# Altium schematic symbol library 0.1 - 电阻-电容-电感-磁珠-电位器.SchLib: 44 symbols
Pins are listed as number, name and electrical type; pins without a type are passive.

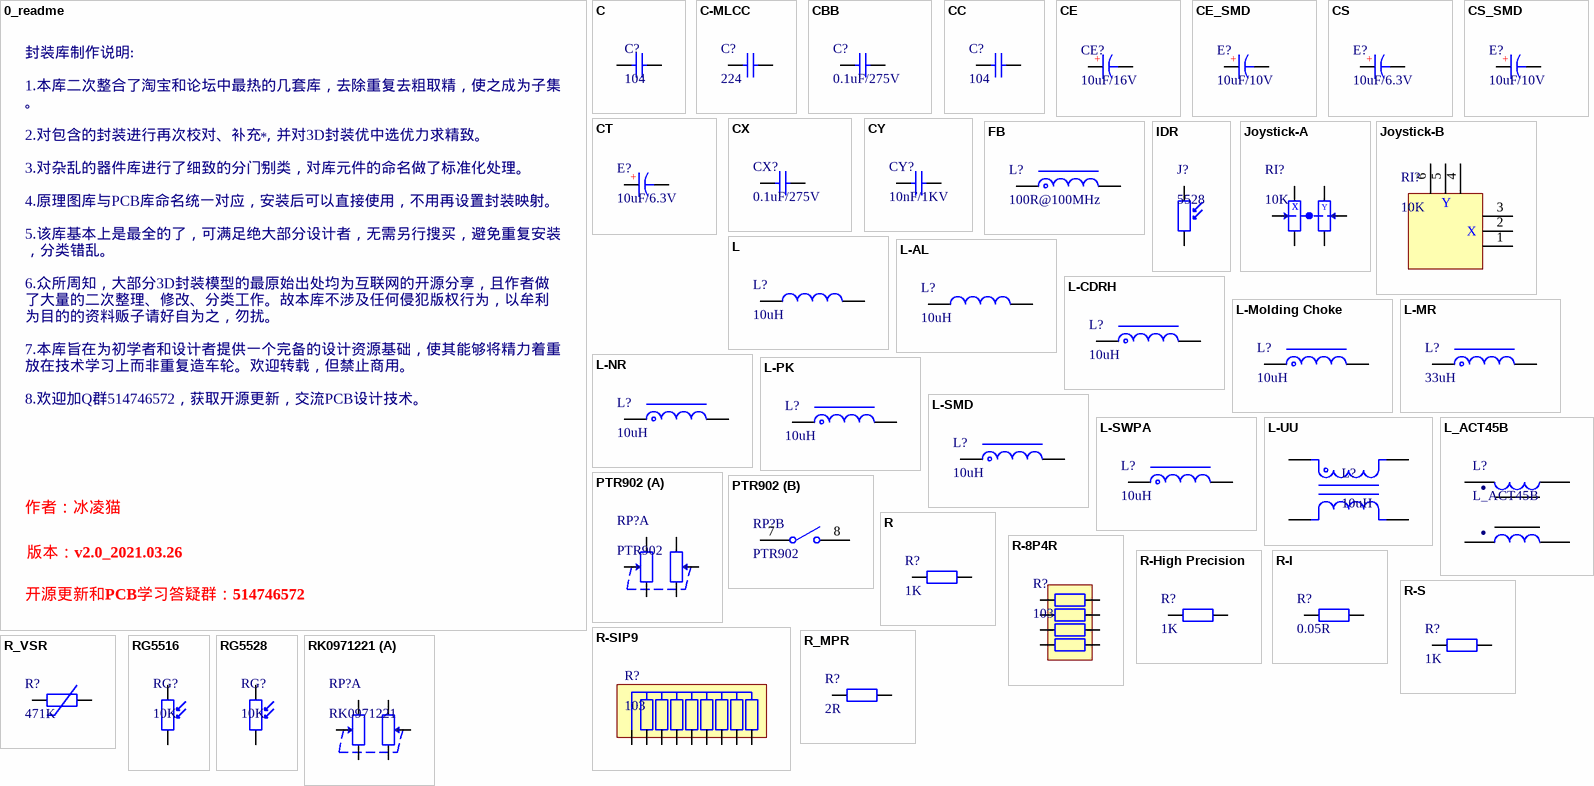
[diagram p0: symbols 0_readme to RK0971221]

## 0_readme
designator *
封装库制作说明
text: 封装库制作说明: / 1.本库二次整合了淘宝和论坛中最热的几套库，去除重复去粗取精，使之成为子集。 / 2.对包含的封装进行再次校对、补充，并对3D封装优中选优力求精致。 / 3.对杂乱的器件库进行了细致的分门别类，对库元件的命名做了标准化处理。 / 4.原理图库与PCB库命名统一对应，安装后可以直接使用，不用再设置封装映射。 / 5.该库基本上是最全的了，可满足绝大部分设计者，无需另行搜买，避免重复安装，分类错乱。 / 6.众所周知，大部分3D封装模型的最原始出处均为互联网的开源分享，且作者做了大量的二次整理、修改、分类工作。故本库不涉及任何侵犯版权行为，以牟利为目的的资料贩子请好自为之，勿扰。 / 7.本库旨在为初学者和设计者提供一个完备的设计资源基础，使其能够将精力着重放在技术学习上而非重复造车轮。欢迎转载，但禁止商用。 / 8.欢迎加Q群514746572，获取开源更新，交流PCB设计技术。 /; 作者：冰凌猫; 版本：v2.0_2021.03.26; 开源更新和PCB学习答疑群：514746572

## C
designator C?, comment 104
贴片电容; 0.0_BOM名称: 无极性贴片电容; 3.交流分享: Q群514746572,开源更新,欢迎一起交流学习PCB设计; 4.作者声明: 旨为整合最全库集,欢迎转载,禁止商用！-冰凌猫; 5.备注说明: 该库已二次整合过网上各热销库,基本最全,无需重复搜购安装; 1.库作者: 冰凌猫; 2.库版本: v2.0 (2021.03.30)
footprint C0201_L (无极性贴片电容)
footprint C0402_L (无极性贴片电容)
footprint C0603_L (无极性贴片电容)
footprint C0805_L (无极性贴片电容)
footprint C1206_L (无极性贴片电容)
footprint C1210_L (无极性贴片电容)
footprint C1808_L (无极性贴片电容)
footprint C1812_L (无极性贴片电容)
footprint C1825_L (无极性贴片电容)
footprint C2225_L (无极性贴片电容)
footprint C0201_M (无极性贴片电容)
footprint C0402_M (无极性贴片电容)
footprint C0603_M (无极性贴片电容)
footprint C0805_M (无极性贴片电容)
footprint C1206_M (无极性贴片电容)
footprint C1210_M (无极性贴片电容)
footprint C1808_M (无极性贴片电容)
footprint C1812_M (无极性贴片电容)
footprint C1825_M (无极性贴片电容)
footprint C2225_M (无极性贴片电容)
pins: 1, 2

## C-MLCC
designator C?, comment 224
独石电容; 3.交流分享: Q群514746572,开源更新,欢迎一起交流学习PCB设计; 4.作者声明: 旨为整合最全库集,欢迎转载,禁止商用！-冰凌猫; 5.备注说明: 该库已二次整合过网上各热销库,基本最全,无需重复搜购安装; 1.库作者: 冰凌猫; 2.库版本: v2.0 (2021.03.30); 0.0_BOM名称: 独石电容
footprint MLCC5.08-A (独石电容，脚距5.08mm)
pins: 1, 2

## CBB
designator C?, comment 0.1uF/275V
CBB电容; 3.交流分享: Q群514746572,开源更新,欢迎一起交流学习PCB设计; 4.作者声明: 旨为整合最全库集,欢迎转载,禁止商用！-冰凌猫; 5.备注说明: 该库已二次整合过网上各热销库,基本最全,无需重复搜购安装; 1.库作者: 冰凌猫; 2.库版本: v2.0 (2021.03.30); 0.0_BOM名称: CBB电容
footprint CBB 10*12*8 (脚距10mm高12mm厚8mm)
footprint CBB 15*18*11 (脚距15mm高18mm厚11mm)
footprint CBB 20*23*17 (脚距20mm高23mm厚17mm)
footprint CBB 5*6.3*3 (脚距5mm高6.3mm厚3mm)
footprint CBB-CL71 (7.2mm*2.3mm*6.5mm(长*宽*高）)
pins: 1, 2

## CC
designator C?, comment 104
瓷片电容; 0.0_BOM名称: 直插瓷片电容; 3.交流分享: Q群514746572,开源更新,欢迎一起交流学习PCB设计; 4.作者声明: 旨为整合最全库集,欢迎转载,禁止商用！-冰凌猫; 5.备注说明: 该库已二次整合过网上各热销库,基本最全,无需重复搜购安装; 1.库作者: 冰凌猫; 2.库版本: v2.0 (2021.03.30)
footprint CC 1.8*3.6 (脚距1.8mm直径3.6mm)
footprint CC 2.2*5 (脚距2.2mm直径5mm)
pins: 1, 2

## CE
designator CE?, comment 10uF/16V
直插电解电容; 3.交流分享: Q群514746572,开源更新,欢迎一起交流学习PCB设计; 4.作者声明: 旨为整合最全库集,欢迎转载,禁止商用！-冰凌猫; 5.备注说明: 该库已二次整合过网上各热销库,基本最全,无需重复搜购安装; 1.库作者: 冰凌猫; 2.库版本: v2.0 (2021.03.30); 0.0_BOM名称: 直插电解电容
footprint CAP 1.5*4*8 (脚距1.5mm直径4mm高度8mm)
footprint CAP 1.5*4*8 - BK (脚距1.5mm直径4mm高度8mm)
footprint CAP 1.5*4*8 - GD (脚距1.5mm直径4mm高度8mm)
footprint CAP 1.5*4*8-H (脚距1.5mm直径4mm高度8mm)
footprint CAP 1.5*4*8-H - BK (脚距1.5mm直径4mm高度8mm)
footprint CAP 1.5*4*8-H - GD (脚距1.5mm直径4mm高度8mm)
footprint CAP 2.0*5*11 (脚距2mm直径5mm高度11mm)
footprint CAP 2.0*5*11 - BK (脚距2mm直径5mm高度11mm)
footprint CAP 2.0*5*11 - GD (脚距2mm直径5mm高度11mm)
footprint CAP 2.0*5*11-H (脚距2mm直径5mm高度11mm)
footprint CAP 2.0*5*11-H - BK (脚距2mm直径5mm高度11mm)
footprint CAP 2.0*5*11-H - GD (脚距2mm直径5mm高度11mm)
footprint CAP 2.5*5*11 (脚距2.5mm直径5mm高度11mm)
footprint CAP 2.5*5*11 - BK (脚距2.5mm直径5mm高度11mm)
footprint CAP 2.5*5*11 - GD (脚距2.5mm直径5mm高度11mm)
footprint CAP 2.5*5*11-H (脚距2.5mm直径5mm高度11mm)
footprint CAP 2.5*5*11-H - BK (脚距2.5mm直径5mm高度11mm)
footprint CAP 2.5*5*11-H - GD (脚距2.5mm直径5mm高度11mm)
footprint CAP 2.5*6.3*7 (脚距2.5mm直径6.3mm高度7mm)
footprint CAP 2.5*6.3*7 - BK (脚距2.5mm直径6.3mm高度7mm)
footprint CAP 2.5*6.3*7 - GD (脚距2.5mm直径6.3mm高度7mm)
footprint CAP 2.5*6.3*7-H (脚距2.5mm直径6.3mm高度7mm)
footprint CAP 2.5*6.3*7-H - BK (脚距2.5mm直径6.3mm高度7mm)
footprint CAP 2.5*6.3*7-H - GD (脚距2.5mm直径6.3mm高度7mm)
footprint CAP 2.5*6.3*11.2 (脚距2.5mm直径6.3mm高度11.2mm)
footprint CAP 2.5*6.3*11.2 - BK (脚距2.5mm直径6.3mm高度11.2mm)
footprint CAP 2.5*6.3*11.2 - GD (脚距2.5mm直径6.3mm高度11.2mm)
footprint CAP 2.5*6.3*11.2-H (脚距2.5mm直径6.3mm高度11.2mm)
footprint CAP 2.5*6.3*11.2-H - BK (脚距2.5mm直径6.3mm高度11.2mm)
footprint CAP 2.5*6.3*11.2-H - GD (脚距2.5mm直径6.3mm高度11.2mm)
footprint CAP 3.5*8*11.5 (脚距3.5mm直径8mm高度11.5mm)
footprint CAP 3.5*8*11.5 - BK (脚距3.5mm直径8mm高度11.5mm)
footprint CAP 3.5*8*11.5 - GD (脚距3.5mm直径8mm高度11.5mm)
footprint CAP 3.5*8*11.5-H (脚距3.5mm直径8mm高度11.5mm)
footprint CAP 3.5*8*11.5-H - BK (脚距3.5mm直径8mm高度11.5mm)
footprint CAP 3.5*8*11.5-H - GD (脚距3.5mm直径8mm高度11.5mm)
footprint CAP 5.0*10*12.5 (脚距5mm直径10mm高度12.5mm)
footprint CAP 5.0*10*12.5 - BK (脚距5mm直径10mm高度12.5mm)
footprint CAP 5.0*10*12.5 - GD (脚距5mm直径10mm高度12.5mm)
footprint CAP 5.0*10*12.5-H (脚距5mm直径10mm高度12.5mm)
footprint CAP 5.0*10*12.5-H - BK (脚距5mm直径10mm高度12.5mm)
footprint CAP 5.0*10*12.5-H - GD (脚距5mm直径10mm高度12.5mm)
footprint CAP 5.0*10*16 (脚距5mm直径10mm高度16mm)
footprint CAP 5.0*10*16 - BK (脚距5mm直径10mm高度16mm)
footprint CAP 5.0*10*16 - GD (脚距5mm直径10mm高度16mm)
footprint CAP 5.0*10*16-H (脚距5mm直径10mm高度16mm)
footprint CAP 5.0*10*16-H - BK (脚距5mm直径10mm高度16mm)
footprint CAP 5.0*10*16-H - GD (脚距5mm直径10mm高度16mm)
footprint CAP 5.0*10*20 (脚距5mm直径10mm高度20mm)
footprint CAP 5.0*10*20 - BK (脚距5mm直径10mm高度20mm)
footprint CAP 5.0*10*20 - GD (脚距5mm直径10mm高度20mm)
footprint CAP 5.0*10*20-H (脚距5mm直径10mm高度20mm)
footprint CAP 5.0*10*20-H - BK (脚距5mm直径10mm高度20mm)
footprint CAP 5.0*10*20-H - GD (脚距5mm直径10mm高度20mm)
footprint CAP 5.0*12.5*20 (脚距5mm直径12.5mm高度20mm)
footprint CAP 5.0*12.5*20 - BK (脚距5mm直径12.5mm高度20mm)
footprint CAP 5.0*12.5*20 - GD (脚距5mm直径12.5mm高度20mm)
footprint CAP 5.0*12.5*20-H (脚距5mm直径12.5mm高度20mm)
footprint CAP 5.0*12.5*20-H - BK (脚距5mm直径12.5mm高度20mm)
footprint CAP 5.0*12.5*20-H - GD (脚距5mm直径12.5mm高度20mm)
footprint CAP 5.0*12.5*25 (脚距5mm直径12.5mm高度25mm)
footprint CAP 5.0*12.5*25 - BK (脚距5mm直径12.5mm高度25mm)
footprint CAP 5.0*12.5*25 - GD (脚距5mm直径12.5mm高度25mm)
footprint CAP 5.0*12.5*25-H (脚距5mm直径12.5mm高度25mm)
footprint CAP 5.0*12.5*25-H - BK (脚距5mm直径12.5mm高度25mm)
footprint CAP 5.0*12.5*25-H - GD (脚距5mm直径12.5mm高度25mm)
footprint CAP 7.5*16*25 (脚距7.5mm直径16mm高度25mm)
footprint CAP 7.5*16*25 - BK (脚距7.5mm直径16mm高度25mm)
footprint CAP 7.5*16*25 - GD (脚距7.5mm直径16mm高度25mm)
footprint CAP 7.5*16*25-H (脚距7.5mm直径16mm高度25mm)
footprint CAP 7.5*16*25-H - BK (脚距7.5mm直径16mm高度25mm)
footprint CAP 7.5*16*25-H - GD (脚距7.5mm直径16mm高度25mm)
footprint CAP 7.5*16*31.5 (脚距7.5mm直径16mm高度31.5mm)
footprint CAP 7.5*16*31.5 - BK (脚距7.5mm直径16mm高度31.5mm)
footprint CAP 7.5*16*31.5 - GD (脚距7.5mm直径16mm高度31.5mm)
footprint CAP 7.5*16*31.5-H (脚距7.5mm直径16mm高度31.5mm)
footprint CAP 7.5*16*31.5-H - BK (脚距7.5mm直径16mm高度31.5mm)
footprint CAP 7.5*16*31.5-H - GD (脚距7.5mm直径16mm高度31.5mm)
footprint CAP 7.5*18*35.5 (脚距7.5mm直径18mm高度35.5mm)
footprint CAP 7.5*18*35.5 - BK (脚距7.5mm直径18mm高度35.5mm)
footprint CAP 7.5*18*35.5 - GD (脚距7.5mm直径18mm高度35.5mm)
footprint CAP 7.5*18*35.5-H (脚距7.5mm直径18mm高度35.5mm)
footprint CAP 7.5*18*35.5-H - BK (脚距7.5mm直径18mm高度35.5mm)
footprint CAP 7.5*18*35.5-H - GD (脚距7.5mm直径18mm高度35.5mm)
footprint CAP 10*22*31.5 (脚距10mm直径22mm高度31.5mm)
footprint CAP 10*22*31.5 - BK (脚距10mm直径22mm高度31.5mm)
footprint CAP 10*22*31.5 - GD (脚距10mm直径22mm高度31.5mm)
footprint CAP 10*22*40 (脚距10mm直径22mm高度40mm)
footprint CAP 10*22*40 - BK (脚距10mm直径22mm高度40mm)
footprint CAP 10*22*40 - GD (脚距10mm直径22mm高度40mm)
pins: 1, 2
text: +

## CE_SMD
designator E?, comment 10uF/10V
贴片电解电容; 3.交流分享: Q群514746572,开源更新,欢迎一起交流学习PCB设计; 4.作者声明: 旨为整合最全库集,欢迎转载,禁止商用！-冰凌猫; 5.备注说明: 该库已二次整合过网上各热销库,基本最全,无需重复搜购安装; 1.库作者: 冰凌猫; 2.库版本: v2.0 (2021.03.30); 0.0_BOM名称: 贴片电解电容
footprint CE A(3*5.4) (贴片电解电容，直径3mm，高5.4mm)
footprint CE B(4*5.4) (贴片电解电容，直径4mm，高5.4mm)
footprint CE C(5*5.4) (贴片电解电容，直径5mm，高5.4mm)
footprint CE D(6.3*5.4) (贴片电解电容，直径6.3mm，高5.4mm)
footprint CE D(6.3*7.7) (贴片电解电容，直径6.3mm，高7.7mm)
footprint CE E(8*6.2) (贴片电解电容，直径8mm，高6.2mm)
footprint CE E(8*10.2) (贴片电解电容，直径8mm，高10.2mm)
footprint CE F(10*10.2) (贴片电解电容，直径10mm，高10.2mm)
footprint CE G(12.5*13.5) (贴片电解电容，直径12.5mm，高13.5mm)
footprint CE G(12.5*16) (贴片电解电容，直径12.5mm，高16mm)
footprint CE H(16*16.5) (贴片电解电容，直径16mm，高16.5mm)
pins: 1, 2
text: +

## CS
designator E?, comment 10uF/6.3V
直插固态电容; 3.交流分享: Q群514746572,开源更新,欢迎一起交流学习PCB设计; 4.作者声明: 旨为整合最全库集,欢迎转载,禁止商用！-冰凌猫; 5.备注说明: 该库已二次整合过网上各热销库,基本最全,无需重复搜购安装; 1.库作者: 冰凌猫; 2.库版本: v2.0 (2021.03.30); 0.0_BOM名称: 直插固态电容
footprint CT 2.0*5*8 - C (脚距2mm , 直径5mm , 高8mm)
footprint CT 2.0*5*8 - R (脚距2mm , 直径5mm , 高8mm)
footprint CT 2.0*5*8 - V (脚距2mm , 直径5mm , 高8mm)
footprint CT 2.5*6.3*7 - C (脚距2.5mm , 直径6.3mm , 高7mm)
footprint CT 2.5*6.3*7 - R (脚距2.5mm , 直径6.3mm , 高7mm)
footprint CT 2.5*6.3*7 - V (脚距2.5mm , 直径6.3mm , 高7mm)
footprint CT 2.5*6.3*11 - C (脚距2.5mm , 直径6.3mm , 高11mm)
footprint CT 2.5*6.3*11 - R (脚距2.5mm , 直径6.3mm , 高11mm)
footprint CT 2.5*6.3*11 - V (脚距2.5mm , 直径6.3mm , 高11mm)
footprint CT 3.5*8*8 - C (脚距3.5mm , 直径8mm , 高8mm)
footprint CT 3.5*8*8 - R (脚距3.5mm , 直径8mm , 高8mm)
footprint CT 3.5*8*8 - V (脚距3.5mm , 直径8mm , 高8mm)
footprint CT 3.5*8*11.5 - C (脚距3.5mm , 直径8mm , 高11.5mm)
footprint CT 3.5*8*11.5 - R (脚距3.5mm , 直径8mm , 高11.5mm)
footprint CT 3.5*8*11.5 - V (脚距3.5mm , 直径8mm , 高11.5mm)
footprint CT 5.0*10*13 - C (脚距5mm , 直径10mm , 高13mm)
footprint CT 5.0*10*13 - R (脚距5mm , 直径10mm , 高13mm)
footprint CT 5.0*10*13 - V (脚距5mm , 直径10mm , 高13mm)
pins: 1, 2
text: +

## CS_SMD
designator E?, comment 10uF/10V
贴片固态电容; 3.交流分享: Q群514746572,开源更新,欢迎一起交流学习PCB设计; 4.作者声明: 旨为整合最全库集,欢迎转载,禁止商用！-冰凌猫; 5.备注说明: 该库已二次整合过网上各热销库,基本最全,无需重复搜购安装; 1.库作者: 冰凌猫; 2.库版本: v2.0 (2021.03.30); 0.0_BOM名称: 贴片固态电容
footprint CS 5*6 - B (直径5mm，高6mm)
footprint CS 5*6 - R (直径5mm，高6mm)
footprint CS 5*6 - V (直径5mm，高6mm)
footprint CS 6*4 - B (直径6mm，高4mm)
footprint CS 6*4 - R (直径6mm，高4mm)
footprint CS 6*4 - V (直径6mm，高4mm)
footprint CS 6*6 - B (直径6mm，高6mm)
footprint CS 6*6 - R (直径6mm，高6mm)
footprint CS 6*6 - V (直径6mm，高6mm)
footprint CS 8*7 - B (直径8mm，高7mm)
footprint CS 8*7 - R (直径8mm，高7mm)
footprint CS 8*7 - V (直径8mm，高7mm)
footprint CS 8*12 - B (直径8mm，高12mm)
footprint CS 8*12 - R (直径8mm，高12mm)
footprint CS 8*12 - V (直径8mm，高12mm)
footprint CS 10*6 - B (直径10mm，高6mm)
footprint CS 10*6 - R (直径10mm，高6mm)
footprint CS 10*6 - V (直径10mm，高6mm)
footprint CS 10*8 - B (直径10mm，高8mm)
footprint CS 10*8 - R (直径10mm，高8mm)
footprint CS 10*8 - V (直径10mm，高8mm)
footprint CS 10*13 - B (直径10mm，高13mm)
footprint CS 10*13 - R (直径10mm，高13mm)
footprint CS 10*13 - V (直径10mm，高13mm)
pins: 1, 2
text: +

## CT
designator E?, comment 10uF/6.3V
贴片钽电容; 3.交流分享: Q群514746572,开源更新,欢迎一起交流学习PCB设计; 4.作者声明: 旨为整合最全库集,欢迎转载,禁止商用！-冰凌猫; 5.备注说明: 该库已二次整合过网上各热销库,基本最全,无需重复搜购安装; 1.库作者: 冰凌猫; 2.库版本: v2.0 (2021.03.30); 0.0_BOM名称: 贴片钽电容
footprint C_3216 (A型贴片钽电容 长3.2mm，宽1.6mm，厚1.6mm)
footprint C_3528 (B型贴片钽电容 长3.5mm，宽2.8mm，厚1.9mm)
footprint C_6032 (C型贴片钽电容 长6.0mm，宽3.2mm，厚2.5mm)
footprint C_7343 (D型贴片钽电容 长7.3mm，宽4.3mm，厚2.8mm)
footprint C_7343H (E型4mm高度贴片钽电容 长7.3mm，宽4.3mm，厚4.0mm)
footprint C_2012 (S型贴片钽电容 长2.0mm，宽1.25mm，厚1.2mm)
pins: 1 A, 2 K
text: +

## CX
designator CX?, comment 0.1uF/275V
安规X电容; 0.0_BOM名称: X电容; 3.交流分享: Q群514746572,开源更新,欢迎一起交流学习PCB设计; 4.作者声明: 旨为整合最全库集,欢迎转载,禁止商用！-冰凌猫; 5.备注说明: 该库已二次整合过网上各热销库,基本最全,无需重复搜购安装; 1.库作者: 冰凌猫; 2.库版本: v2.0 (2021.03.30)
footprint CX 10*13*11 (脚距10mm高13mm厚11mm)
footprint CX 15*18*11 (脚距15mm高18mm厚11mm)
pins: 1, 2

## CY
designator CY?, comment 10nF/1KV
安规Y电容; 0.0_BOM名称: 高压陶瓷电容，Y电容; 3.交流分享: Q群514746572,开源更新,欢迎一起交流学习PCB设计; 4.作者声明: 旨为整合最全库集,欢迎转载,禁止商用！-冰凌猫; 5.备注说明: 该库已二次整合过网上各热销库,基本最全,无需重复搜购安装; 1.库作者: 冰凌猫; 2.库版本: v2.0 (2021.03.30)
footprint CY 7.5*8*4 (脚距7.5mm，直径8mm，厚4mm)
footprint CY 7.5*10*4 (脚距7.5mm，直径10mm，厚4mm)
footprint CY 7.5*12*5 (脚距7.5mm，直径12mm，厚5mm)
footprint CY 10*14*5 (脚距10mm，直径14mm，厚5mm)
footprint CY 10*16*6 (脚距10mm，直径16mm，厚6mm)
footprint CY 10*18*6 (脚距10mm，直径18mm，厚6mm)
footprint CY 5*7*2.5 (脚距5mm，直径7mm，厚2.5mm)
pins: 1, 2

## FB
designator L?, comment 100R@100MHz
磁珠; 0.0_BOM名称: 直插磁珠; 3.交流分享: Q群514746572,开源更新,欢迎一起交流学习PCB设计; 4.作者声明: 旨为整合最全库集,欢迎转载,禁止商用！-冰凌猫; 5.备注说明: 该库已二次整合过网上各热销库,基本最全,无需重复搜购安装; 1.库作者: 冰凌猫; 2.库版本: v2.0 (2021.03.30)
footprint FB3650_TH (10*3.6*5.0mm（脚距，直径，长度）)
pins: 1, 2

## IDR
designator J?, comment 5528
光敏电阻; 3.交流分享: Q群514746572,开源更新,欢迎一起交流学习PCB设计; 4.作者声明: 旨为整合最全库集,欢迎转载,禁止商用！-冰凌猫; 5.备注说明: 该库已二次整合过网上各热销库,基本最全,无需重复搜购安装; 1.库作者: 冰凌猫; 2.库版本: v2.0 (2021.03.30); 0.0_BOM名称: 光敏电阻
footprint RG5528 (光敏电阻 脚距：3mm)
pins: 1, 2

## Joystick-A
designator RI?, comment 10K
双轴按键摇杆电位器; 0.0_BOM名称: 摇杆电位器; 3.交流分享: Q群514746572,开源更新,欢迎一起交流学习PCB设计; 4.作者声明: 旨为整合最全库集,欢迎转载,禁止商用！-冰凌猫; 5.备注说明: 该库已二次整合过网上各热销库,基本最全,无需重复搜购安装; 1.库作者: 冰凌猫; 2.库版本: v2.0 (2021.03.30)
footprint ROC16 (摇杆电位器，长16mm，宽16mm，高12.2mm)
pins: 1, 2, 3, 4, 5, 6
text: x; Y

## Joystick-B
designator RI?, comment 10K
双轴按键摇杆电位器; 0.0_BOM名称: 摇杆电位器; 3.交流分享: Q群514746572,开源更新,欢迎一起交流学习PCB设计; 4.作者声明: 旨为整合最全库集,欢迎转载,禁止商用！-冰凌猫; 5.备注说明: 该库已二次整合过网上各热销库,基本最全,无需重复搜购安装; 1.库作者: 冰凌猫; 2.库版本: v2.0 (2021.03.30)
footprint ROC16 (摇杆电位器，长16mm，宽16mm，高12.2mm)
pins: 1, 2, 3, 4, 5, 6
text: Y; X

## L
designator L?, comment 10uH
贴片小功率电感; 0.0_BOM名称: 小功率贴片电感; 3.交流分享: Q群514746572,开源更新,欢迎一起交流学习PCB设计; 4.作者声明: 旨为整合最全库集,欢迎转载,禁止商用！-冰凌猫; 5.备注说明: 该库已二次整合过网上各热销库,基本最全,无需重复搜购安装; 1.库作者: 冰凌猫; 2.库版本: v2.0 (2021.03.30)
footprint L0402 (小功率贴片电感)
footprint L0603 (小功率贴片电感)
footprint L0805 (小功率贴片电感)
footprint L1206 (小功率贴片电感)
footprint L1210 (小功率贴片电感)
footprint L1806 (小功率贴片电感)
footprint L1812 (小功率贴片电感)
pins: 1, 2

## L-AL
designator L?, comment 10uH
色环电感; 3.交流分享: Q群514746572,开源更新,欢迎一起交流学习PCB设计; 4.作者声明: 旨为整合最全库集,欢迎转载,禁止商用！-冰凌猫; 5.备注说明: 该库已二次整合过网上各热销库,基本最全,无需重复搜购安装; 1.库作者: 冰凌猫; 2.库版本: v2.0 (2021.03.30); 0.0_BOM名称: 色环电感
footprint AL0204 (9*2*4mm（脚距，直径，长度）)
footprint AL0204_V (3*2*4mm（脚距，直径，长度）)
footprint AL0307 (11*3*7mm（脚距，直径，长度）)
footprint AL0307_V (3.5*3*7mm（脚距，直径，长度）)
footprint AL0410 (15*4*10.5mm（脚距，直径，长度）)
footprint AL0410_V (5*4*10.5mm（脚距，直径，长度）)
footprint AL0510 (16*5*10.5mm（脚距，直径，长度）)
footprint AL0510_V (6*5*10.5mm（脚距，直径，长度）)
pins: 1, 2

## L-CDRH
designator L?, comment 10uH
CDRH功率屏蔽电感; 0.0_BOM名称: 功率屏蔽电感; 3.交流分享: Q群514746572,开源更新,欢迎一起交流学习PCB设计; 4.作者声明: 旨为整合最全库集,欢迎转载,禁止商用！-冰凌猫; 5.备注说明: 该库已二次整合过网上各热销库,基本最全,无需重复搜购安装; 1.库作者: 冰凌猫; 2.库版本: v2.0 (2021.03.30)
footprint CDRH73 (7.3*7.3*3.4mm（长宽高）)
footprint CDRH74 (7.3*7.3*4.5mm（长宽高）)
footprint CDRH124 (12*12*4.5mm（长宽高）)
footprint CDRH125 (12*12*5mm（长宽高）)
footprint CDRH127 (12*12*8mm（长宽高）)
footprint CDRH129 (12*12*9.5mm（长宽高）)
pins: 1, 2

## L-Molding Choke
designator L?, comment 10uH
一体成型电感; 3.交流分享: Q群514746572,开源更新,欢迎一起交流学习PCB设计; 4.作者声明: 旨为整合最全库集,欢迎转载,禁止商用！-冰凌猫; 5.备注说明: 该库已二次整合过网上各热销库,基本最全,无需重复搜购安装; 1.库作者: 冰凌猫; 2.库版本: v2.0 (2021.03.30); 0.0_BOM名称: 一体成型电感
footprint L-SMD-0630 (一体化成型电感)
pins: 1, 2

## L-MR
designator L?, comment 33uH
功率磁环电感; 3.交流分享: Q群514746572,开源更新,欢迎一起交流学习PCB设计; 4.作者声明: 旨为整合最全库集,欢迎转载,禁止商用！-冰凌猫; 5.备注说明: 该库已二次整合过网上各热销库,基本最全,无需重复搜购安装; 1.库作者: 冰凌猫; 2.库版本: v2.0 (2021.03.30); 0.0_BOM名称: 功率磁环电感
footprint LMR135 (磁环电感，外径13mm，厚度5mm)
pins: 1, 2

## L-NR
designator L?, comment 10uH
太诱-NR磁胶电感; 0.0_BOM名称: NR磁胶电感; 3.交流分享: Q群514746572,开源更新,欢迎一起交流学习PCB设计; 4.作者声明: 旨为整合最全库集,欢迎转载,禁止商用！-冰凌猫; 5.备注说明: 该库已二次整合过网上各热销库,基本最全,无需重复搜购安装; 1.库作者: 冰凌猫; 2.库版本: v2.0 (2021.03.30)
footprint NR2520 (2.5mm*2.0mm*1.0mm(长*宽*高）)
footprint NR3010 (3.0mm*3.0mm*1.0mm(长*宽*高）)
footprint NR3012 (3.0mm*3.0mm*1.2mm(长*宽*高）)
footprint NR3015 (3.0mm*3.0mm*1.5mm(长*宽*高）)
footprint NR4010 (4.0mm*4.0mm*1.0mm(长*宽*高）)
footprint NR4018 (4.0mm*4.0mm*1.8mm(长*宽*高）)
footprint NR4020 (4.0mm*4.0mm*2.0mm(长*宽*高）)
footprint NR4026 (4.0mm*4.0mm*2.6mm(长*宽*高）)
footprint NR4030 (4.0mm*4.0mm*3.0mm(长*宽*高）)
footprint NR5012 (5.0mm*5.0mm*1.2mm(长*宽*高）)
footprint NR5020 (5.0mm*5.0mm*2.0mm(长*宽*高）)
footprint NR5040 (5.0mm*5.0mm*4.0mm(长*宽*高）)
footprint NR6020 (6.0mm*6.0mm*2.0mm(长*宽*高）)
footprint NR6028 (6.0mm*6.0mm*2.8mm(长*宽*高）)
footprint NR6045 (6.0mm*6.0mm*4.5mm(长*宽*高）)
footprint NR8040 (8.0mm*8.0mm*4.0mm(长*宽*高）)
pins: 1, 2

## L-PK
designator L?, comment 10uH
工字电感; 3.交流分享: Q群514746572,开源更新,欢迎一起交流学习PCB设计; 4.作者声明: 旨为整合最全库集,欢迎转载,禁止商用！-冰凌猫; 5.备注说明: 该库已二次整合过网上各热销库,基本最全,无需重复搜购安装; 1.库作者: 冰凌猫; 2.库版本: v2.0 (2021.03.30); 0.0_BOM名称: 工字电感
footprint PK0406 (2*5*8mm(脚距，直径，高）)
footprint PK0608 (2.5*7*10mm(脚距，直径，高）)
footprint PK0810 (5*9*12mm(脚距，直径，高）)
footprint PK0912 (6*10*14mm(脚距，直径，高）)
footprint PK1012 (6*11*14mm(脚距，直径，高）)
footprint PK1415 (7.5*15*17mm(脚距，直径，高）)
footprint PK1618 (12.5*17*20mm(脚距，直径，高）)
footprint PK1818 (15*19*20mm(脚距，直径，高）)
pins: 1, 2

## L-SMD
designator L?, comment 10uH
CD系列贴片线绕功率电感; 0.0_BOM名称: 功率电感; 3.交流分享: Q群514746572,开源更新,欢迎一起交流学习PCB设计; 4.作者声明: 旨为整合最全库集,欢迎转载,禁止商用！-冰凌猫; 5.备注说明: 该库已二次整合过网上各热销库,基本最全,无需重复搜购安装; 1.库作者: 冰凌猫; 2.库版本: v2.0 (2021.03.30)
footprint CD31 (3.5*3*1mm（长宽高）)
footprint CD32 (3.5*3*2mm（长宽高）)
footprint CD42 (4.5*4*2mm（长宽高）)
footprint CD43 (4.5*4*3.2mm（长宽高）)
footprint CD52 (5.8*5.2*3mm（长宽高）)
footprint CD53 (5.8*5.2*3.5mm（长宽高）)
footprint CD54 (5.8*5.2*4.5mm（长宽高）)
footprint CD73 (7.8*7*3.5mm（长宽高）)
footprint CD75 (7.8*7*5mm（长宽高）)
footprint CD104 (10*9*4mm（长宽高）)
footprint CD105 (10*9*5.4mm（长宽高）)
footprint CD106 (10*9*6.5mm（长宽高）)
pins: 1, 2

## L-SWPA
designator L?, comment 10uH
顺络_SWPA贴片屏蔽电感; 0.0_BOM名称: 功率屏蔽电感; 3.交流分享: Q群514746572,开源更新,欢迎一起交流学习PCB设计; 4.作者声明: 旨为整合最全库集,欢迎转载,禁止商用！-冰凌猫; 5.备注说明: 该库已二次整合过网上各热销库,基本最全,无需重复搜购安装; 1.库作者: 冰凌猫; 2.库版本: v2.0 (2021.03.30)
footprint SWPA3010 (轮廓3mm*3mm ，焊盘间距1.5mm)
footprint SWPA3012 (轮廓3mm*3mm ，焊盘间距1.5mm)
footprint SWPA3015 (轮廓3mm*3mm ，焊盘间距1.5mm)
footprint SWPA4010 (轮廓4mm*4mm ，焊盘间距1.9mm)
footprint SWPA4012 (轮廓4mm*4mm ，焊盘间距1.9mm)
footprint SWPA4020 (轮廓4mm*4mm ，焊盘间距1.9mm)
footprint SWPA4018 (轮廓4mm*4mm ，焊盘间距1.9mm)
footprint SWPA4026 (轮廓4mm*4mm ，焊盘间距1.9mm)
footprint SWPA4030 (轮廓4mm*4mm ，焊盘间距1.9mm)
footprint SWPA5012 (轮廓5mm*5mm ，焊盘间距2.3mm)
footprint SWPA5020 (轮廓5mm*5mm ，焊盘间距2.3mm)
footprint SWPA5040 (轮廓5mm*5mm ，焊盘间距2.3mm)
footprint SWPA6020 (轮廓6mm*6mm ，焊盘间距2.8mm)
footprint SWPA6028 (轮廓6mm*6mm ，焊盘间距2.8mm)
footprint SWPA6040 (轮廓6mm*6mm ，焊盘间距2.8mm)
footprint SWPA6045 (轮廓6mm*6mm ，焊盘间距2.8mm)
footprint SWPA6045 (轮廓6mm*6mm ，焊盘间距2.8mm)
footprint SWPA8040 (轮廓8mm*8mm ，焊盘间距3.8mm)
footprint SWPA8050 (轮廓8mm*8mm ，焊盘间距3.8mm)
footprint SWPA8065 (轮廓8mm*8mm ，焊盘间距3.8mm)
footprint SWPA252010 (轮廓2.5mm*2mm ，焊盘间距0.8mm)
footprint SWPA252012 (轮廓2.5mm*2mm ，焊盘间距0.8mm)
pins: 1, 2

## L-UU
designator L?, comment 10uH
共模电感; 3.交流分享: Q群514746572,开源更新,欢迎一起交流学习PCB设计; 4.作者声明: 旨为整合最全库集,欢迎转载,禁止商用！-冰凌猫; 5.备注说明: 该库已二次整合过网上各热销库,基本最全,无需重复搜购安装; 1.库作者: 冰凌猫; 2.库版本: v2.0 (2021.03.30); 0.0_BOM名称: 共模电感
footprint UU9.8 (17*12*17mm(长宽高）)
footprint UU10.5 (18*16*20mm(长宽高）)
footprint UU16 (22*17.5*23mm(长宽高）)
footprint CMC_12x6x4 (直径：13.2mm，厚：7.2mm，脚距5*6.6mm)
pins: 1, 2, 3, 4

## L_ACT45B
designator L?
共模电感; 3.交流分享: Q群514746572,开源更新,欢迎一起交流学习PCB设计; 4.作者声明: 旨为整合最全库集,欢迎转载,禁止商用！-冰凌猫; 5.备注说明: 该库已二次整合过网上各热销库,基本最全,无需重复搜购安装; 1.库作者: 冰凌猫; 2.库版本: v2.0 (2021.03.30); 0.0_BOM名称: 共模电感
footprint L-TDK
pins: 1, 2, 3, 4
text: .

## PTR902
designator RP?
双联电位器带开关; 0.0_BOM名称: 插件双联电位器带开关; 3.交流分享: Q群514746572,开源更新,欢迎一起交流学习PCB设计; 4.作者声明: 旨为整合最全库集,欢迎转载,禁止商用！-冰凌猫; 5.备注说明: 该库已二次整合过网上各热销库,基本最全,无需重复搜购安装; 1.库作者: 冰凌猫; 2.库版本: v2.0 (2021.03.30)
footprint PTR902-L15 (双联电位器带开关（柄长15mm）)
part A pins: 1, 2, 3, 4, 5, 6
part B pins: 7, 8

## R
designator R?, comment 1K
贴片电阻; 3.交流分享: Q群514746572,开源更新,欢迎一起交流学习PCB设计; 4.作者声明: 旨为整合最全库集,欢迎转载,禁止商用！-冰凌猫; 5.备注说明: 该库已二次整合过网上各热销库,基本最全,无需重复搜购安装; 1.库作者: 冰凌猫; 2.库版本: v2.0 (2021.03.30); 0.0_BOM名称: 贴片电阻
footprint R0201_L (1/20W贴片电阻)
footprint R0402_L (1/16W贴片电阻)
footprint R0603_L (1/10W贴片电阻)
footprint R0805_L (1/8W贴片电阻)
footprint R1206_L (1/4W贴片电阻)
footprint R1210_L (1/3W贴片电阻)
footprint R1812_L (1/2W贴片电阻)
footprint R2010_L (3/4W贴片电阻)
footprint R2512_L (1W贴片电阻)
footprint R0201_M (1/20W贴片电阻)
footprint R0402_M (1/16W贴片电阻)
footprint R0603_M (1/10W贴片电阻)
footprint R0805_M (1/8W贴片电阻)
footprint R1206_M (1/4W贴片电阻)
footprint R1210_M (1/3W贴片电阻)
footprint R1812_M (1/2W贴片电阻)
footprint R2010_M (3/4W贴片电阻)
footprint R2512_M (1W贴片电阻)
pins: 1, 2

## R-8P4R
designator R?, comment 103
贴片4P排阻; 0.0_BOM名称: 贴片网络排阻; 3.交流分享: Q群514746572,开源更新,欢迎一起交流学习PCB设计; 4.作者声明: 旨为整合最全库集,欢迎转载,禁止商用！-冰凌猫; 5.备注说明: 该库已二次整合过网上各热销库,基本最全,无需重复搜购安装; 1.库作者: 冰凌猫; 2.库版本: v2.0 (2021.03.30)
footprint RCA-8P4R-0402 (2mm*1mm*0.45mm(长*宽*厚))
footprint RCA-8P4R-0603 (3.2mm*1.6mm*0.6mm(长*宽*厚))
pins: 1, 2, 3, 4, 5, 6, 7, 8

## R-High Precision
designator R?, comment 1K
贴片精密电阻; 0.0_BOM名称: 精密电阻; 3.交流分享: Q群514746572,开源更新,欢迎一起交流学习PCB设计; 4.作者声明: 旨为整合最全库集,欢迎转载,禁止商用！-冰凌猫; 5.备注说明: 该库已二次整合过网上各热销库,基本最全,无需重复搜购安装; 1.库作者: 冰凌猫; 2.库版本: v2.0 (2021.03.30)
footprint R0201-HP_L (1/20W高精度贴片电阻)
footprint R0402-HP_L (1/16W高精度贴片电阻)
footprint R0603-HP_L (1/10W高精度贴片电阻)
footprint R0805-HP_L (1/8W高精度贴片电阻)
footprint R1206-HP_L (1/4W高精度贴片电阻)
footprint R1210-HP_L (1/3W高精度贴片电阻)
footprint R1812-HP_L (1/2W高精度贴片电阻)
footprint R2010-HP_L (3/4W高精度贴片电阻)
footprint R2512-HP_L (1W高精度贴片电阻)
footprint R0201-HP_M (1/20W高精度贴片电阻)
footprint R0402-HP_M (1/16W高精度贴片电阻)
footprint R0603-HP_M (1/10W高精度贴片电阻)
footprint R0805-HP_M (1/8W高精度贴片电阻)
footprint R1206-HP_M (1/4W高精度贴片电阻)
footprint R1210-HP_M (1/3W高精度贴片电阻)
footprint R1812-HP_M (1/2W高精度贴片电阻)
footprint R2010-HP_M (3/4W高精度贴片电阻)
footprint R2512-HP_M (1W高精度贴片电阻)
pins: 1, 2

## R-I
designator R?, comment 0.05R
电流检测电阻; 3.交流分享: Q群514746572,开源更新,欢迎一起交流学习PCB设计; 4.作者声明: 旨为整合最全库集,欢迎转载,禁止商用！-冰凌猫; 5.备注说明: 该库已二次整合过网上各热销库,基本最全,无需重复搜购安装; 1.库作者: 冰凌猫; 2.库版本: v2.0 (2021.03.30); 0.0_BOM名称: 电流检测电阻
footprint RI 1.25W - 0.9mm (电流检测电阻，脚距10mm，高15mm，直径0.9mm)
pins: 1, 2

## R-S
designator R?, comment 1K
色环电阻; 3.交流分享: Q群514746572,开源更新,欢迎一起交流学习PCB设计; 4.作者声明: 旨为整合最全库集,欢迎转载,禁止商用！-冰凌猫; 5.备注说明: 该库已二次整合过网上各热销库,基本最全,无需重复搜购安装; 1.库作者: 冰凌猫; 2.库版本: v2.0 (2021.03.30); 0.0_BOM名称: 色环电阻
footprint RS 1/2W (直插色环电阻，脚距12.5mm，直径3mm)
footprint RS 1/2W-V4 (直插色环电阻，脚距4mm，直径3mm)
footprint RS 1/4W (直插色环电阻，脚距9mm，直径2.3mm)
footprint RS 1/4W-V3 (直插色环电阻，脚距3mm，直径2.3mm)
footprint RS 1/8W (直插色环电阻，脚距6mm，直径1.5mm)
footprint RS 1/8W-V2 (直插色环电阻，脚距2mm，直径1.5mm)
footprint RS 1W (直插色环电阻，脚距15mm，直径4mm)
footprint RS 1W-F5 (直插色环电阻，脚距15mm，直径4mm，浮空5mm)
footprint RS 1W-V5 (直插色环电阻，脚距5mm，直径4mm)
footprint RS 2W (直插色环电阻，脚距20mm，直径5mm)
footprint RS 2W-F5 (直插色环电阻，脚距20mm，直径5mm，浮空5mm)
footprint RS 2W-V6 (直插色环电阻，脚距6mm，直径5mm)
footprint RS 3W (直插色环电阻，脚距25mm，直径6mm)
footprint RS 3W-F5 (直插色环电阻，脚距25mm，直径6mm，浮空5mm)
footprint RS 3W-V7 (直插色环电阻，脚距7mm，直径6mm)
footprint RS 5W (直插色环电阻，脚距30mm，直径8mm)
footprint RS 5W-F5 (直插色环电阻，脚距30mm，直径8mm，浮空5mm)
footprint RS 5W-V8 (直插色环电阻，脚距8mm，直径8mm)
pins: 1, 2

## R-SIP9
designator R?, comment 103
9脚直插排阻; 0.0_BOM名称: 单列直插排阻; 3.交流分享: Q群514746572,开源更新,欢迎一起交流学习PCB设计; 4.作者声明: 旨为整合最全库集,欢迎转载,禁止商用！-冰凌猫; 5.备注说明: 该库已二次整合过网上各热销库,基本最全,无需重复搜购安装; 1.库作者: 冰凌猫; 2.库版本: v2.0 (2021.03.30)
footprint R SIP9-2.54 (22.6mm*5mm*2.2mm(长*宽*厚))
pins: 1, 2, 3, 4, 5, 6, 7, 8, 9

## R_MPR
designator R?, comment 2R
5W无感水泥电阻; 0.0_BOM名称: 大功率电阻; 3.交流分享: Q群514746572,开源更新,欢迎一起交流学习PCB设计; 4.作者声明: 旨为整合最全库集,欢迎转载,禁止商用！-冰凌猫; 5.备注说明: 该库已二次整合过网上各热销库,基本最全,无需重复搜购安装; 1.库作者: 冰凌猫; 2.库版本: v2.0 (2021.03.30)
footprint RX10-18*15*5 (18*15*5MM(长*宽*厚))
pins: 1, 2

## R_VSR
designator R?, comment 471K
压敏电阻; 3.交流分享: Q群514746572,开源更新,欢迎一起交流学习PCB设计; 4.作者声明: 旨为整合最全库集,欢迎转载,禁止商用！-冰凌猫; 5.备注说明: 该库已二次整合过网上各热销库,基本最全,无需重复搜购安装; 1.库作者: 冰凌猫; 2.库版本: v2.0 (2021.03.30); 0.0_BOM名称: 压敏电阻
footprint VDR 9D-4.5 (压敏电阻9mm*4.5mm(直径*厚度）)
pins: 1, 2

## RG5516
designator RG?, comment 10K
光敏电阻; 3.交流分享: Q群514746572,开源更新,欢迎一起交流学习PCB设计; 4.作者声明: 旨为整合最全库集,欢迎转载,禁止商用！-冰凌猫; 5.备注说明: 该库已二次整合过网上各热销库,基本最全,无需重复搜购安装; 1.库作者: 冰凌猫; 2.库版本: v2.0 (2021.03.30); 0.0_BOM名称: 光敏电阻
footprint RG5528 (光敏电阻 脚距：3mm)
pins: 1, 2

## RG5528
designator RG?, comment 10K
光敏电阻; 3.交流分享: Q群514746572,开源更新,欢迎一起交流学习PCB设计; 4.作者声明: 旨为整合最全库集,欢迎转载,禁止商用！-冰凌猫; 5.备注说明: 该库已二次整合过网上各热销库,基本最全,无需重复搜购安装; 1.库作者: 冰凌猫; 2.库版本: v2.0 (2021.03.30); 0.0_BOM名称: 光敏电阻
footprint RG5528 (光敏电阻 脚距：3mm)
pins: 1, 2

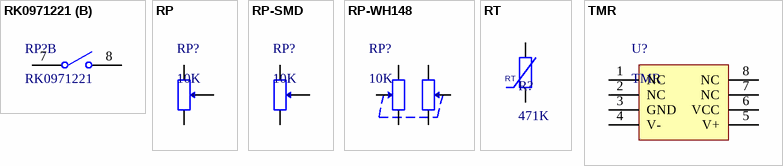
[diagram p1: symbols RK0971221 to TMR]

## RK0971221
designator RP?
双联电位器带开关; 0.0_BOM名称: 插件双联音量电位器带开关; 3.交流分享: Q群514746572,开源更新,欢迎一起交流学习PCB设计; 4.作者声明: 旨为整合最全库集,欢迎转载,禁止商用！-冰凌猫; 5.备注说明: 该库已二次整合过网上各热销库,基本最全,无需重复搜购安装; 1.库作者: 冰凌猫; 2.库版本: v2.0 (2021.03.30)
footprint RK0971221-L15 (双联音量电位器带开关（柄长15mm）)
footprint RK0971221-L20 (双联音量电位器带开关（柄长20mm）)
part A pins: 1, 2, 3, 4, 5, 6
part B pins: 7, 8

## RP
designator RP?, comment 10K
单联电位器; 0.0_BOM名称: 插件电位器; 3.交流分享: Q群514746572,开源更新,欢迎一起交流学习PCB设计; 4.作者声明: 旨为整合最全库集,欢迎转载,禁止商用！-冰凌猫; 5.备注说明: 该库已二次整合过网上各热销库,基本最全,无需重复搜购安装; 1.库作者: 冰凌猫; 2.库版本: v2.0 (2021.03.30)
footprint 3296W (Precise Multi-Winding Adjustable Resistor)
footprint 3306W
footprint 3319P
footprint 3362P
footprint 3386W
footprint RM065 (蓝白可调电位器)
footprint WH148-1-G15 (单联电位器，脚距：5mm，柄长：15mm)
footprint WH148-1-G18 (单联电位器，脚距：5mm，柄长：18mm)
footprint WH148-1-G20 (单联电位器，脚距：5mm，柄长：20mm)
footprint WH148-1-G25 (单联电位器，脚距：5mm，柄长：25mm)
footprint 3266W (长：7mm，宽：4.8mm，高：7.5mm)
footprint 3266X (长：7mm，宽：4.8mm，高：7.5mm)
footprint 3266Y (长：7mm，宽：4.8mm，高：7.5mm)
footprint 3266Z (长：7mm，宽：4.8mm，高：7.5mm)
footprint XV09223NPV-20F (长9.85mm，宽11.55mm，高20mm)
footprint XV09223NPV-25F (长9.85mm，宽11.55mm，高25mm)
footprint XV09223NPV-30F (长9.85mm，宽11.55mm，高30mm)
footprint 3006P (19.05mm*4.83mm*6.35mm(长*宽*高）)
pins: 1, 2, 3

## RP-SMD
designator RP?, comment 10K
贴片电位器; 3.交流分享: Q群514746572,开源更新,欢迎一起交流学习PCB设计; 4.作者声明: 旨为整合最全库集,欢迎转载,禁止商用！-冰凌猫; 5.备注说明: 该库已二次整合过网上各热销库,基本最全,无需重复搜购安装; 1.库作者: 冰凌猫; 2.库版本: v2.0 (2021.03.30); 0.0_BOM名称: 贴片电位器
footprint 3303W (Footprint not found)
pins: 1, 2, 3

## RP-WH148
designator RP?, comment 10K
WH148双联电位器; 0.0_BOM名称: 插件电位器; 3.交流分享: Q群514746572,开源更新,欢迎一起交流学习PCB设计; 4.作者声明: 旨为整合最全库集,欢迎转载,禁止商用！-冰凌猫; 5.备注说明: 该库已二次整合过网上各热销库,基本最全,无需重复搜购安装; 1.库作者: 冰凌猫; 2.库版本: v2.0 (2021.03.30)
footprint WH148-2-G15 (双联电位器，脚距：5mm，柄长：15mm)
footprint WH148-2-G18 (双联电位器，脚距：5mm，柄长：18mm)
footprint WH148-2-G20 (双联电位器，脚距：5mm，柄长：20mm)
footprint WH148-2-G25 (双联电位器，脚距：5mm，柄长：25mm)
footprint WH148C-2-G15 (双联弯脚电位器，脚距：5mm，柄长：15mm)
footprint WH148C-2-G18 (双联弯脚电位器，脚距：5mm，柄长：18mm)
footprint WH148C-2-G20 (双联弯脚电位器，脚距：5mm，柄长：20mm)
footprint WH148C-2-G25 (双联弯脚电位器，脚距：5mm，柄长：25mm)
footprint FADER75-6 (直线电位器，长75mm)
pins: 1, 2, 3, 4, 5, 6

## RT
designator R?, comment 471K
热敏电阻; 0.0_BOM名称: 压敏电阻; 3.交流分享: Q群514746572,开源更新,欢迎一起交流学习PCB设计; 4.作者声明: 旨为整合最全库集,欢迎转载,禁止商用！-冰凌猫; 5.备注说明: 该库已二次整合过网上各热销库,基本最全,无需重复搜购安装; 1.库作者: 冰凌猫; 2.库版本: v2.0 (2021.03.30)
footprint R0805-HP_L (1/8W高精度贴片电阻)
pins: 1, 2

## TMR
designator U?
隧道磁电阻; 3.交流分享: Q群514746572,开源更新,欢迎一起交流学习PCB设计; 4.作者声明: 旨为整合最全库集,欢迎转载,禁止商用！-冰凌猫; 5.备注说明: 该库已二次整合过网上各热销库,基本最全,无需重复搜购安装; 1.库作者: 冰凌猫; 2.库版本: v2.0 (2021.03.30)
footprint SOIC-8_150mil
pins: 1 NC, 2 NC, 3 GND, 4 V-, 5 V+, 6 VCC, 7 NC, 8 NC